# EAGLE library part CONNECTOR-13_?_* (library HyTechDevices)
13 pin connector Datasheet <https://www.souriau.com/en-en/system/files/application/downloads/8sta_series_pc_tail_contacts_datasheet_0.pdf>
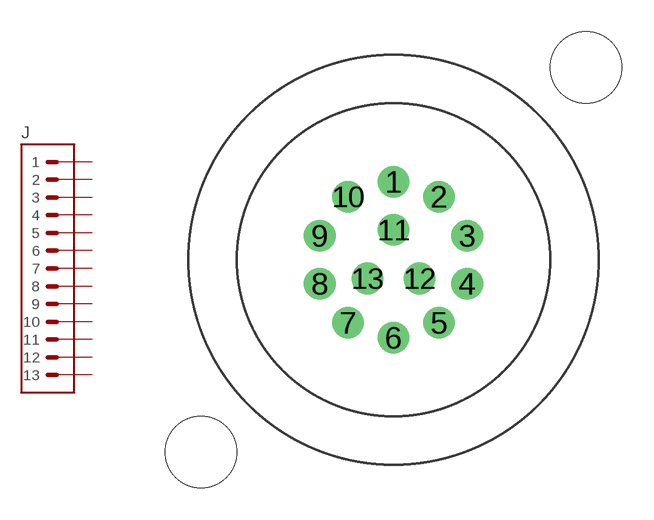
[diagram p55: symbol with the pads of SOURIAU_10-35; footprint SOURIAU_10-35]

Designator prefix J

## CONNECTOR-13_SOURIAU_ (MANUFACTURER: Souriau; MOPN: 649-8STA21035PN; MPN: 8STA21035PN)  [SOURIAU_10-35]
1  1  pas
2  2  pas
3  3  pas
4  4  pas
5  5  pas
6  6  pas
7  7  pas
8  8  pas
9  9  pas
10  10  pas
11  11  pas
12  12  pas
13  13  pas

## Footprint SOURIAU_10-35 (pad centres in mm)
Souriau 13 pin connector Datasheet <https://www.mouser.com/datasheet/2/379/P088_P096-179693.pdf>
drill 1: 1 0,3.71; 2 2.16,3; 3 3.51,1.14; 4 3.51,-1.14; 5 2.16,-3; 6 0,-3.71; 7 -2.16,-3; 8 -3.51,-1.14; 9 -3.51,1.14; 10 -2.16,3; 11 0,1.42; 12 1.24,-0.89; 13 -1.24,-0.89
hole 3.4 at 9.157,9.157
hole 3.4 at -9.157,-9.157